# EAGLE library part MPU-6050 (library MPU6050)
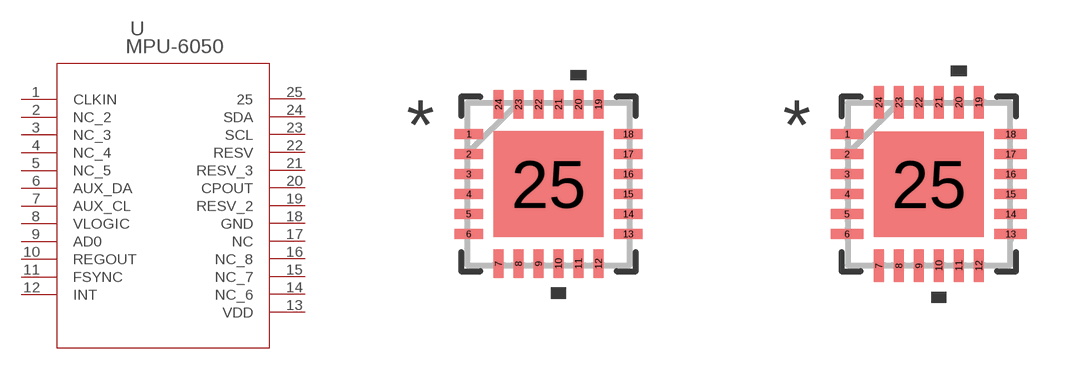
[diagram p0: symbol with the pads of QFN24_4X4X0P9_IVS; footprints QFN24_4X4X0P9_IVS, QFN24_4X4X0P9_IVS-M]

Designator prefix U

## MPU-6050 (BUILT_BY: EMA_Cory; COPYRIGHT: Copyright (C) 2018 Accelerated Designs. All rights reserved; MANUFACTURER_PART_NUMBER: MPU-6050; SOURCELIBRARY: InvenSense_2019-12-03; VENDOR: IvenSense)  [QFN24_4X4X0P9_IVS]
1  CLKIN  in
2  NC_2  nc
3  NC_3  nc
4  NC_4  nc
5  NC_5  nc
6  AUX_DA  pas
7  AUX_CL  pas
8  VLOGIC  pwr
9  AD0
10  REGOUT  pas
11  FSYNC  in
12  INT  out
13  VDD  pwr
14  NC_6  nc
15  NC_7  nc
16  NC_8  nc
17  NC  nc
18  GND  pas
19  RESV_2  nc
20  CPOUT  pas
21  RESV_3  nc
22  RESV  nc
23  SCL  pas
24  SDA  pas
25  25  pas

## MPU-6050QFN24_4X4X0P9_IVS-M (BUILT_BY: EMA_Cory; COPYRIGHT: Copyright (C) 2018 Accelerated Designs. All rights reserved; MANUFACTURER_PART_NUMBER: MPU-6050; SOURCELIBRARY: InvenSense_2019-12-03; VENDOR: IvenSense)  [QFN24_4X4X0P9_IVS-M]
Pads as for QFN24_4X4X0P9_IVS

## MPU-6050QFN24_4X4X0P9_IVS-L (BUILT_BY: EMA_Cory; COPYRIGHT: Copyright (C) 2018 Accelerated Designs. All rights reserved; MANUFACTURER_PART_NUMBER: MPU-6050; SOURCELIBRARY: InvenSense_2019-12-03; VENDOR: IvenSense)  [QFN24_4X4X0P9_IVS-L]
Pads as for QFN24_4X4X0P9_IVS

## Footprint QFN24_4X4X0P9_IVS (pad centres in mm)
smd 0.711 x 0.254: 1 -1.994,1.25; 2 -1.994,0.75; 3 -1.994,0.25; 4 -1.994,-0.25; 5 -1.994,-0.75; 6 -1.994,-1.25; 13 1.994,-1.25; 14 1.994,-0.75; 15 1.994,-0.25; 16 1.994,0.25; 17 1.994,0.75; 18 1.994,1.25
smd 0.254 x 0.711: 7 -1.25,-1.994; 8 -0.75,-1.994; 9 -0.25,-1.994; 10 0.25,-1.994; 11 0.75,-1.994; 12 1.25,-1.994; 19 1.25,1.994; 20 0.75,1.994; 21 0.25,1.994; 22 -0.25,1.994; 23 -0.75,1.994; 24 -1.25,1.994
smd 2.743 x 2.642: 25 0,0

## Footprint QFN24_4X4X0P9_IVS-M (pad centres in mm)
smd 0.813 x 0.254: 1 -2.045,1.25; 2 -2.045,0.75; 3 -2.045,0.25; 4 -2.045,-0.25; 5 -2.045,-0.75; 6 -2.045,-1.25; 13 2.045,-1.25; 14 2.045,-0.75; 15 2.045,-0.25; 16 2.045,0.25; 17 2.045,0.75; 18 2.045,1.25
smd 0.254 x 0.813: 7 -1.25,-2.045; 8 -0.75,-2.045; 9 -0.25,-2.045; 10 0.25,-2.045; 11 0.75,-2.045; 12 1.25,-2.045; 19 1.25,2.045; 20 0.75,2.045; 21 0.25,2.045; 22 -0.25,2.045; 23 -0.75,2.045; 24 -1.25,2.045
smd 2.743 x 2.642: 25 0,0

## Footprint QFN24_4X4X0P9_IVS-L (pad centres in mm)
smd 0.61 x 0.254: 1 -1.943,1.25; 2 -1.943,0.75; 3 -1.943,0.25; 4 -1.943,-0.25; 5 -1.943,-0.75; 6 -1.943,-1.25; 13 1.943,-1.25; 14 1.943,-0.75; 15 1.943,-0.25; 16 1.943,0.25; 17 1.943,0.75; 18 1.943,1.25
smd 0.254 x 0.61: 7 -1.25,-1.943; 8 -0.75,-1.943; 9 -0.25,-1.943; 10 0.25,-1.943; 11 0.75,-1.943; 12 1.25,-1.943; 19 1.25,1.943; 20 0.75,1.943; 21 0.25,1.943; 22 -0.25,1.943; 23 -0.75,1.943; 24 -1.25,1.943
smd 2.743 x 2.642: 25 0,0